# Altium schematic symbol library sensorsLib.SchLib: 3 symbols
Pins are listed as number, name and electrical type; pins without a type are passive.

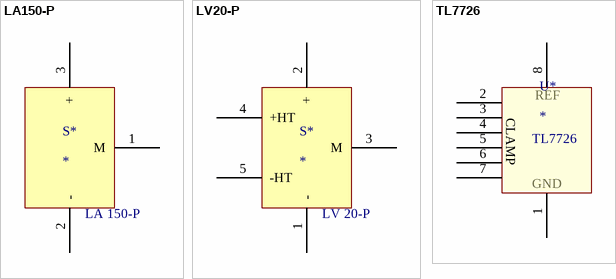
[diagram p0: symbols LA150-P to TL7726]

## LA150-P
designator S*
Current Transducer
footprint LA150-P (Current Transducer)
pins: 1 M "Measurement signal", 2 - "Negative Supply", 3 + "Positive Supply"
text: LA 150-P

## LV20-P
designator S*
Voltage Transducer
footprint LV 20-P (Voltage Transducer LV 20-P)
pins: 1 - "Negative Supply", 2 + "Positive Supply", 3 M "Measurement signal", 4 +HT "Positive High Tension", 5 -HT "Nevative High Tension"
text: LV 20-P

## TL7726
designator U*
Hex Clamping Circuit - Overvoltage Limiter
footprint DIP8-300 (DIP, 8-Leads, 0.300" lead span , 0.100" lead pitch, IPC Density A)
pins: 1 GND, 2 CLAMP, 3 CLAMP, 4 CLAMP, 5 CLAMP, 6 CLAMP, 7 CLAMP, 8 REF